# EAGLE library part BC847S (library transistor)
NPN Transistor Array 2 NPN
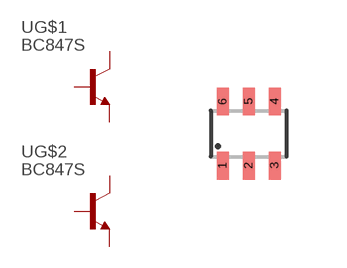
[diagram p7: symbol with the pads of SOT363-INFINION; footprint SOT363-INFINION]

Designator prefix -; gates G$1=NPN G$2=NPN

## BC847S  [SOT363-INFINION]
1  G$1:E  pas
2  G$1:B  pas
3  G$2:C  pas
4  G$2:E  pas
5  G$2:B  pas
6  G$1:C  pas

## Footprint SOT363-INFINION (pad centres in mm)
SOT363 Source: Infineon-BCR22PN-DS-v01_01-en.pdf
smd 0.3 x 0.7: 1 -0.65,-0.8; 2 0,-0.8; 3 0.65,-0.8; 4 0.65,0.8; 5 0,0.8; 6 -0.65,0.8